# EAGLE library part P2K-1 (library ESR_NM8032)
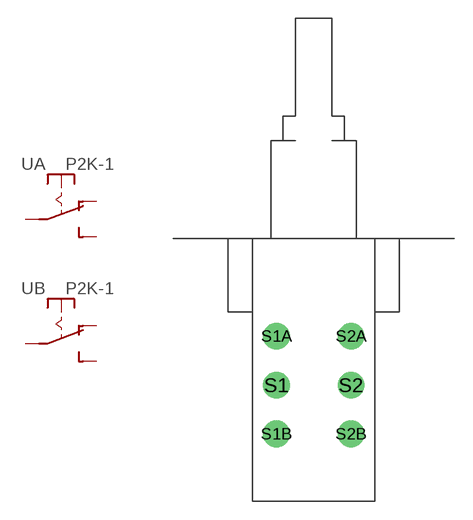
[diagram p2: symbol with the pads of P2K; footprint P2K]

Designator prefix -; gates A=DS B=DS

## P2K-1  [P2K]
S1  A:P  pas
S1A  A:O  pas
S1B  A:S  pas
S2  B:P  pas
S2A  B:O  pas
S2B  B:S  pas

## Footprint P2K (pad centres in mm)
drill 1.1 pad 2.184: S1 -3.05,-7.62; S1A -3.05,-3.62; S1B -3.05,-11.62; S2 3.05,-7.62; S2A 3.05,-3.62; S2B 3.05,-11.62